# EAGLE library part TLP251 (library photocouplers)
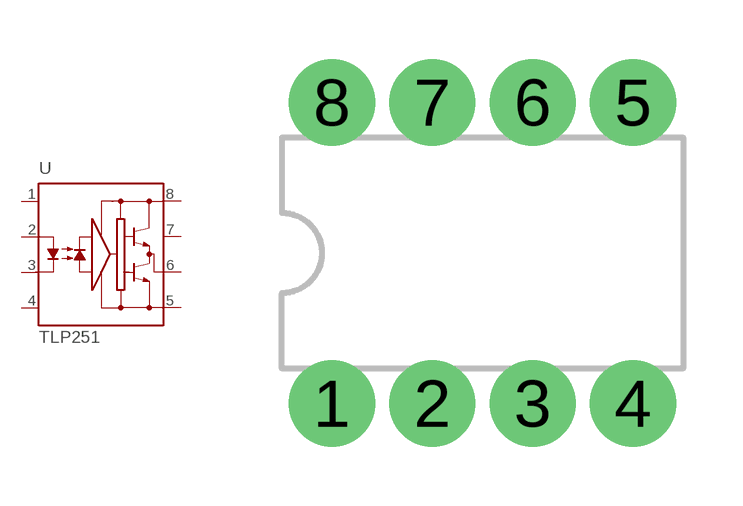
[diagram p2: symbol with the pads of DIP8; footprint DIP8]

Designator prefix -

## TLP251  [DIP8]
1  1  nc
2  2  in
3  3  out
4  4  nc
5  5  pwr
6  6  out
7  7  nc
8  8  pwr

## Footprint DIP8 (pad centres in mm)
Dual In Line Package
drill 1 pad 2.184: 1 -3.81,-3.81; 2 -1.27,-3.81; 3 1.27,-3.81; 4 3.81,-3.81; 5 3.81,3.81; 6 1.27,3.81; 7 -1.27,3.81; 8 -3.81,3.81